# Altium schematic symbol library DCT.SchLib: 34 symbols
Pins are listed as number, name and electrical type; pins without a type are passive.

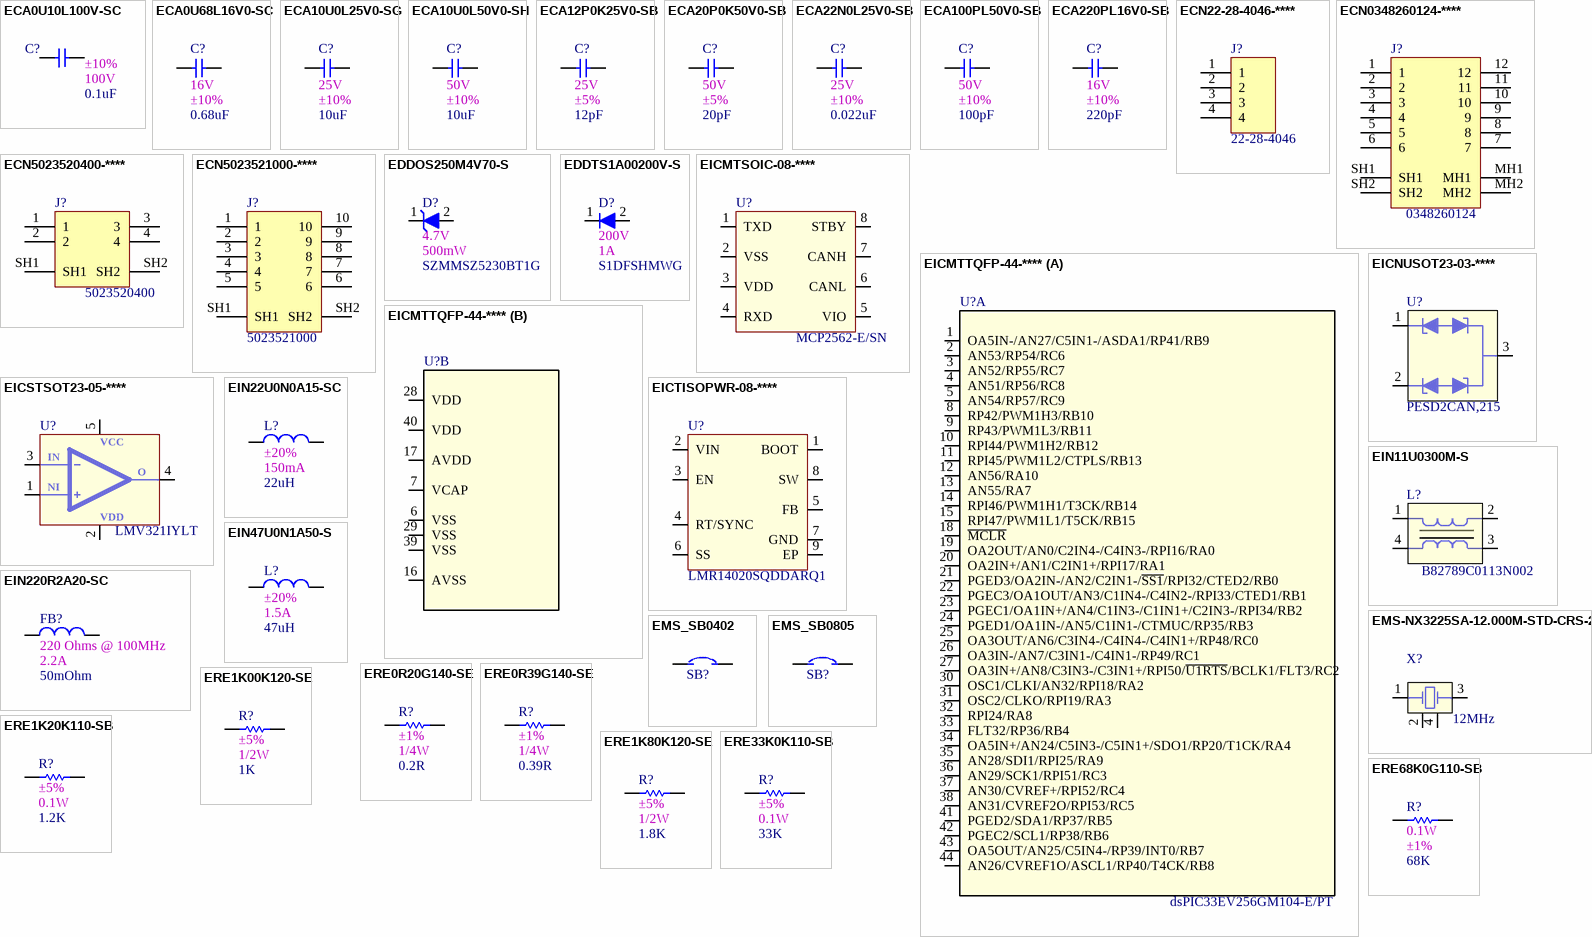
[diagram p0: symbols ECA0U10L100V-SC to ERE68K0G110-SB]

## ECA0U10L100V-SC
designator C?, comment value 0.1uF  1st Auxiliary Field: 100V  2nd Auxiliary Field: ±10%  (hidden comment: CAP CER 0.1UF 100V X7R 0603)
Manufacturer: Taiyo Yuden; Manufacturer Part Number: HMK107B7104KAHT; Internal Part Number: ECA0U10L100V-SC; Vendor Part Number: 587-6009-1-ND; Temp Co: -55°C ~ 125°C; 3rd Auxiliary Field: RoHS Compliant; Component Height (mm): 0.90mm; 4th Auxiliary Field: AEC-Q200; Vendor Name: Digi-Key; Part Type: CAP CER 0.1UF 100V X7R 0603
footprint SMDC0603 (Footprint not found)
pins: 1, 2

## ECA0U68L16V0-SC
designator C?, comment value 0.68uF  1st Auxiliary Field: 16V  2nd Auxiliary Field: ±10%  (hidden comment: CAP CER 0.68UF 16V X7R 0603)
Manufacturer: TDK Corporation; Manufacturer Part Number: CGA3E1X7R1C684K080AC; Internal Part Number: ECA0U68L16V0-SC; Vendor Part Number: 445-5673-1-ND; Temp Co: -55°C ~ 125°C; 3rd Auxiliary Field: RoHS Compliant; Component Height (mm): 0.90mm; 4th Auxiliary Field: AEC-Q200; Vendor Name: Digi-Key; Part Type: CAP CER 0.68UF 16V X7R 0603
footprint SMDC0603 (Footprint not found)
pins: 1, 2

## ECA10U0L25V0-SG
designator C?, comment value 10uF  1st Auxiliary Field: 25V  2nd Auxiliary Field: ±10%  (hidden comment: CAP CER 10UF 25V X7R 1206)
Manufacturer: Taiyo Yuden; Manufacturer Part Number: TMK316AB7106KLHT; Internal Part Number: ECA10U0L25V0-SG; Vendor Part Number: 587-3485-1-ND; Temp Co: -55°C ~ 125°C; 3rd Auxiliary Field: RoHS Compliant; Component Height (mm): 1.80mm; 4th Auxiliary Field: AEC-Q200; Vendor Name: Digi-Key; Part Type: CAP CER 10UF 25V X7R 1206
footprint SMDC1206 (Footprint not found)
pins: 1, 2

## ECA10U0L50V0-SH
designator C?, comment value 10uF  1st Auxiliary Field: 50V  2nd Auxiliary Field: ±10%  (hidden comment: CAP CER 10UF 50V X7R 1210)
Manufacturer: AVX Corporation; Manufacturer Part Number: 12105C106K4T2A; Internal Part Number: ECA10U0L50V0-SH; Vendor Part Number: 478-12145-1-ND; Temp Co: -55°C ~ 125°C; 3rd Auxiliary Field: RoHS Compliant; Component Height (mm): 2.79mm; 4th Auxiliary Field: AEC-Q200; Vendor Name: Digi-Key; Part Type: CAP CER 10UF 50V X7R 1210
footprint SMDC1210 (Footprint not found)
pins: 1, 2

## ECA12P0K25V0-SB
designator C?, comment value 12pF  1st Auxiliary Field: 25V  2nd Auxiliary Field: ±5%  (hidden comment: CAP CER 12PF 25V C0G/NP0 0402)
Manufacturer: KEMET; Manufacturer Part Number: C0402C120J3GACAUTO; Internal Part Number: ECA12P0K25V0-SB; Vendor Part Number: 399-6829-1-ND; Temp Co: -55°C ~ 125°C; 3rd Auxiliary Field: RoHS Compliant; Component Height (mm): 0.55mm; 4th Auxiliary Field: AEC-Q200; Vendor Name: Digi-Key; Part Type: CAP CER 12PF 25V C0G/NP0 0402
footprint SMDC0402 (Footprint not found)
pins: 1, 2

## ECA20P0K50V0-SB
designator C?, comment value 20pF  1st Auxiliary Field: 50V  2nd Auxiliary Field: ±5%  (hidden comment: CAP CER 20PF 50V C0G/NP0 0402)
Manufacturer: Samsung Electro-Mechanics; Manufacturer Part Number: CL05C200JB51PNC; Internal Part Number: ECA20P0K50V0-SB; Vendor Part Number: 1276-6601-1-ND; Temp Co: -55°C ~ 125°C; 3rd Auxiliary Field: RoHS Compliant; Component Height (mm): 0.55mm; 4th Auxiliary Field: AEC-Q200; Vendor Name: Digi-Key; Part Type: CAP CER 20PF 50V C0G/NP0 0402
footprint SMDC0402 (Footprint not found)
pins: 1, 2

## ECA22N0L25V0-SB
designator C?, comment value 0.022uF  1st Auxiliary Field: 25V  2nd Auxiliary Field: ±10%  (hidden comment: CAP CER 0.022UF 25V X7R 0402)
Manufacturer: Murata Electronics; Manufacturer Part Number: GCM155R71E223KA55J; Internal Part Number: ECA22N0L25V0-SB; Vendor Part Number: 490-7999-1-ND; Temp Co: -55°C ~ 125°C; 3rd Auxiliary Field: RoHS Compliant; Component Height (mm): 0.55mm; 4th Auxiliary Field: AEC-Q200; Vendor Name: Digi-Key; Part Type: CAP CER 0.022UF 25V X7R 0402
footprint SMDC0402 (Footprint not found)
pins: 1, 2

## ECA100PL50V0-SB
designator C?, comment value 100pF  1st Auxiliary Field: 50V  2nd Auxiliary Field: ±10%  (hidden comment: CAP CER 100PF 50V X7R 0402)
Manufacturer: KEMET; Manufacturer Part Number: C0402C101K5RACAUTO; Internal Part Number: ECA100PL50V0-SB; Vendor Part Number: 399-19358-1-ND; Temp Co: -55°C ~ 125°C; 3rd Auxiliary Field: RoHS Compliant; Component Height (mm): 0.55mm; 4th Auxiliary Field: AEC-Q200; Vendor Name: Digi-Key; Part Type: CAP CER 100PF 50V X7R 0402
footprint SMDC0402 (Footprint not found)
pins: 1, 2

## ECA220PL16V0-SB
designator C?, comment value 220pF  1st Auxiliary Field: 16V  2nd Auxiliary Field: ±10%  (hidden comment: CAP CER 220PF 16V X7R 0402)
Manufacturer: Yageo; Manufacturer Part Number: AC0402KRX7R7BB221; Internal Part Number: ECA220PL16V0-SB; Vendor Part Number: 311-3060-1-ND; Temp Co: -55°C ~ 125°C; 3rd Auxiliary Field: RoHS Compliant; Component Height (mm): 0.55mm; 4th Auxiliary Field: AEC-Q200; Vendor Name: Digi-Key; Part Type: CAP CER 220PF 16V X7R 0402
footprint SMDC0402 (Footprint not found)
pins: 1, 2

## ECN22-28-4046-****
designator J?, comment value 22-28-4046  (hidden comment: Headers & Wire Housings 2.54MM HDR VT 4P 240/125 30AU)
Manufacturer: Molex; Vendor Part Number: 538-22-28-4046; Internal Part Number: ECN22-28-4046-****; Vendor Name: Mouser; 3rd Auxiliary Field: ROHS Compliant; Component Height (mm): 8.38mm; 2nd Auxiliary Field: 4; Part Type: Headers & Wire Housings 2.54MM HDR VT 4P 240/125 30AU; 4th Auxiliary Field: *; Temp Co: *; 1st Auxiliary Field: 2.54 mm; Manufacturer Part Number: 22-28-4046
footprint Molex_0022284046 (Footprint not found)
pins: 1, 2, 3, 4

## ECN0348260124-****
designator J?, comment value 0348260124  (hidden comment: CONN HEADER R/A 12POS 2MM)
Manufacturer: Molex; Vendor Part Number: WM10328-ND; Internal Part Number: ECN0348260124-****; Vendor Name: Digi-Key; 3rd Auxiliary Field: ROHS Compliant; Component Height (mm): 11.68mm; 2nd Auxiliary Field: 12; 1st Auxiliary Field: 2.00mm; Part Type: CONN HEADER R/A 12POS 2MM; 4th Auxiliary Field: *; Temp Co: *; Manufacturer Part Number: 0348260124
footprint MOLEX_0348260124 (Footprint not found)
pins: 1, 2, 3, 4, 5, 6, 7, 8, 9, 10, 11, 12, MH1, MH2, SH1, SH2

## ECN5023520400-****
designator J?, comment value 5023520400  (hidden comment: CONN HEADER SMD R/A 4POS 2MM)
Manufacturer: Molex; Vendor Part Number: WM7171CT-ND; Internal Part Number: ECN5023520400-****; Vendor Name: Digi-Key; 3rd Auxiliary Field: ROHS Compliant; Component Height (mm): 6.40mm; 2nd Auxiliary Field: 4; 1st Auxiliary Field: 2.00mm; Part Type: CONN HEADER SMD R/A 4POS 2MM; 4th Auxiliary Field: *; Temp Co: *; Manufacturer Part Number: 5023520400
footprint Molex_5023520400 (CONN HEADER SMD R/A 4POS 2MM)
pins: 1, 2, 3, 4, SH1, SH2

## ECN5023521000-****
designator J?, comment value 5023521000  (hidden comment: DuraClik Wire-to-Board Header, Single Row, Right-Angle, 10 Circuits, Tin (Sn) Plating, Natural)
Manufacturer: Molex; Internal Part Number: ECN5023521000-****; 3rd Auxiliary Field: ROHS Compliant; Component Height (mm): 6.40mm; 2nd Auxiliary Field: 10; 1st Auxiliary Field: 2.00mm; Part Type: DuraClik Wire-to-Board Header, Single Row, Right-Angle, 10 Circuits, Tin (Sn) Plating, Natural; Vendor Name: Molex; Vendor Part Number: 5023521000; 4th Auxiliary Field: https://www.molex.com/molex/products/part-detail/pcb_headers/5023521000; Temp Co: *; Manufacturer Part Number: 5023521000
footprint Molex_5023521000 (CONN HEADER SMD R/A 10POS 2MM)
pins: 1, 2, 3, 4, 5, 6, 7, 8, 9, 10, SH1, SH2

## EDDOS250M4V70-S
designator D?, comment value SZMMSZ5230BT1G  1st Auxiliary Field: 4.7V  2nd Auxiliary Field: 500mW  (hidden comment: DIODE ZENER 4.7V 500MW SOD123)
Manufacturer: ON Semiconductor; Internal Part Number: EDDOS250M4V70-S; Vendor Part Number: SZMMSZ5230BT1GOSCT-ND; 3rd Auxiliary Field: RoHS Compliant; Temp Co: -55°C ~ 150°C; 4th Auxiliary Field: AEC-Q101; Vendor Name: Digi-Key; Component Height (mm): 1.35mm; Manufacturer Part Number: SZMMSZ5230BT1G; Part Type: DIODE ZENER 4.7V 500MW SOD123
footprint SOD419X135-2N (SODFL, 2-Leads, Body 1.60x3.71mm, IPC Medium Density)
pins: 1 Cathode, 2 Anode

## EDDTS1A00200V-S
designator D?, comment value S1DFSHMWG  1st Auxiliary Field: 200V  2nd Auxiliary Field: 1A  (hidden comment: DIODE, 1A, 200V, AEC-Q101, SOD-1)
Manufacturer: Taiwan Semiconductor Corporation; Internal Part Number: EDDTS1A00200V-S; Vendor Part Number: S1DFSHMWGCT-ND; 3rd Auxiliary Field: RoHS Compliant; Temp Co: -55°C ~ 150°C; Vendor Name: Digi-Key; Component Height (mm): 1.1mm; Manufacturer Part Number: S1DFSHMWG; Part Type: DIODE, 1A, 200V, AEC-Q101, SOD-1; 4th Auxiliary Field: AEC-Q101
footprint SODFL470X110-2N (Footprint not found)
pins: 1 Cathode, 2 Anode

## EICMTSOIC-08-****
designator U?, comment value MCP2562-E/SN  (hidden comment: CAN Interface IC CAN Tranceiver)
Internal Part Number: EICMTSOIC-08-****; Manufacturer: Microchip Technology; Vendor Part Number: 579-MCP2562-E/SN; 1st Auxiliary Field: 1.8V ~ 5.5V; 2nd Auxiliary Field: 1Mbps; 3rd Auxiliary Field: RoHS Compliant; 4th Auxiliary Field: AEC-Q100; Temp Coefficient: -40°C ~ 125°C; Vendor: Mouser; Component Height: 1.27mm; Part Type: CAN Interface IC CAN Tranceiver; Manufacturer Part Number: MCP2562-E/SN
footprint SOIC127P600X176-8N (Footprint not found)
pins: 1 TXD, 2 VSS, 3 VDD, 4 RXD, 5 VIO, 6 CANL, 7 CANH, 8 STBY

## EICMTTQFP-44-****
designator U?, comment value dsPIC33EV256GM104-E/PT  (hidden comment: Digital Signal Processors & Controllers - DSP, DSC 16 Bit 5V DSC 256KB ECC Flash, 16KB RAM)
Manufacturer: Microchip Technology; Vendor Part Number: 579-33EV256GM104EPT; Internal Part Number: EICMTTQFP-44-****; Vendor Name: Mouser; 3rd Auxiliary Field: RoHS Compliant; 4th Auxiliary Field: AEC-Q100; Component Height (mm): 1.2mm; Temp Co: -40°C ~ 125°C; 1st Auxiliary Field: 4.5V ~ 5.5V; Part Type: Digital Signal Processors & Controllers - DSP, DSC 16 Bit 5V DSC 256KB ECC Flash, 16KB RAM; 2nd Auxiliary Field: 256 kB; Manufacturer Part Number: dsPIC33EV256GM104-E/PT
footprint TQFP80P1200X1200X120-44N (TQFP, 44-Leads, Body 10.00x10.00mm, Pitch 0.80mm, IPC Medium Density)
part A pins: 1 OA5IN-/AN27/C5IN1-/ASDA1/RP41/RB9, 2 AN53/RP54/RC6, 3 AN52/RP55/RC7, 4 AN51/RP56/RC8, 5 AN54/RP57/RC9, 8 RP42/PWM1H3/RB10, 9 RP43/PWM1L3/RB11 , 10 RPI44/PWM1H2/RB12, 11 RPI45/PWM1L2/CTPLS/RB13, 12 AN56/RA10, 13 AN55/RA7, 14 RPI46/PWM1H1/T3CK/RB14, 15 RPI47/PWM1L1/T5CK/RB15, 18 ~{MCLR}, 19 OA2OUT/AN0/C2IN4-/C4IN3-/RPI16/RA0, 20 OA2IN+/AN1/C2IN1+/RPI17/RA1, 21 PGED3/OA2IN-/AN2/C2IN1-/~{SS1}/RPI32/CTED2/RB0, 22 PGEC3/OA1OUT/AN3/C1IN4-/C4IN2-/RPI33/CTED1/RB1, 23 PGEC1/OA1IN+/AN4/C1IN3-/C1IN1+/C2IN3-/RPI34/RB2 , 24 PGED1/OA1IN-/AN5/C1IN1-/CTMUC/RP35/RB3, 25 OA3OUT/AN6/C3IN4-/C4IN4-/C4IN1+/RP48/RC0, 26 OA3IN-/AN7/C3IN1-/C4IN1-/RP49/RC1, 27 OA3IN+/AN8/C3IN3-/C3IN1+/RPI50/~{U1RTS}/BCLK1/FLT3/RC2 , 30 OSC1/CLKI/AN32/RPI18/RA2, 31 OSC2/CLKO/RPI19/RA3, 32 RPI24/RA8, 33 FLT32/RP36/RB4, 34 OA5IN+/AN24/C5IN3-/C5IN1+/SDO1/RP20/T1CK/RA4 , 35 AN28/SDI1/RPI25/RA9, 36 AN29/SCK1/RPI51/RC3, 37 AN30/CVREF+/RPI52/RC4, 38 AN31/CVREF2O/RPI53/RC5, 41 PGED2/SDA1/RP37/RB5, 42 PGEC2/SCL1/RP38/RB6, 43 OA5OUT/AN25/C5IN4-/RP39/INT0/RB7 , 44 AN26/CVREF1O/ASCL1/RP40/T4CK/RB8
part B pins: 6 VSS, 7 VCAP, 16 AVSS, 17 AVDD, 28 VDD, 29 VSS, 39 VSS, 40 VDD

## EICNUSOT23-03-****
designator U?, comment value PESD2CAN,215  (hidden comment: TVS DIODE 24V 41V SOT23)
Manufacturer: Nexperia USA Inc.; Vendor Part Number: 1727-3891-1-ND; Internal Part Number: EICNUSOT23-03-****; Vendor Name: Digi-Key; 3rd Auxiliary Field: RoHS Compliant; 4th Auxiliary Field: AEC-Q101; Component Height (mm): 1.1mm; Temp Co: -55°C ~ 150°C (TA); 2nd Auxiliary Field: 25pF @ 1MHz; Part Type: TVS DIODE 24V 41V SOT23; 1st Auxiliary Field: 41V; Manufacturer Part Number: PESD2CAN,215
footprint SOT190P290X100-3N (BAT54,DIODE ARRAY SCHOTTKY 30V SOT23-3)
pins: 1, 2, 3

## EICSTSOT23-05-****
designator U?, comment value LMV321IYLT  (hidden comment: IC OPAMP GP 1 CIRCUIT SOT23-5)
Manufacturer: STMicroelectronics; Internal Part Number: EICSTSOT23-05-****; Vendor Part Number: 497-10221-1-ND; Component Height (mm): 1.45MM; 3rd Auxiliary Field: RoHS Compliant; 1st Auxiliary Field: 2.7V ~ 6V; 2nd Auxiliary Field: 48mA; Temp Co: -40°C ~ 125°C; 4th Auxiliary Field: AEC-Q100; Vendor Name: Digi-Key; Part Type: IC OPAMP GP 1 CIRCUIT SOT23-5; Manufacturer Part Number: LMV321IYLT
footprint SOT95P280X145-5N (SC189ZSKTRT, IC REG BUCK 3.3V 1.5A SYNC SOT23)
pins: 1 Non-Inverting input, 2 VDD, 3 Inverting input, 4 Output, 5 VCC
text: IN; O; NI

## EICTISOPWR-08-****
designator U?, comment value LMR14020SQDDARQ1  (hidden comment: IC REG BUCK ADJUSTABLE 2A 8SOPWR)
Manufacturer: Texas Instruments; Internal Part Number: EICTISOPWR-08-****; Vendor Part Number: 296-43398-1-ND; Component Height (mm): 1.7mm; 3rd Auxiliary Field: RoHS Compliant; 4th Auxiliary Field: AEC-Q100; Vendor Name: Digi-Key; Temp Co: -40°C ~ 125°C (TJ); 1st Auxiliary Field: 40V; Manufacturer Part Number: LMR14020SQDDARQ1; Part Type: IC REG BUCK ADJUSTABLE 2A 8SOPWR; 2nd Auxiliary Field: 2A
footprint SOIC127PX486X383X110-9N (LMR14020SQDDARQ1)
pins: 1 BOOT, 2 VIN, 3 EN, 4 RT/SYNC, 5 FB, 6 SS, 7 GND, 8 SW, 9 EP

## EIN11U0300M-S
designator L?, comment value B82789C0113N002  (hidden comment: CMC 11UH 300MA 2LN SMD AEC-Q200)
Manufacturer: TDK Electronics Inc.; Internal Part Number: EIN11U0300M-S; Vendor Part Number: 495-4409-1-ND; Temp Co: -55°C ~ 125°C; 3rd Auxiliary Field: RoHS Compliant; Component Height (mm): 3.00mm; Vendor Name: Digi-Key; 1st Auxiliary Field: 250mOhm; Manufacturer Part Number: B82789C0113N002; Part Type: CMC 11UH 300MA 2LN SMD AEC-Q200; 4th Auxiliary Field: AEC-Q200; 2nd Auxiliary Field: 300mA
footprint IND_B82789C0104N002 (Footprint not found)
pins: 1, 2, 3, 4

## EIN22U0N0A15-SC
designator L?, comment value 22uH  2nd Auxiliary Field: ±20%  1st Auxiliary Field: 150mA  (hidden comment: FIXED IND 22UH 150MA 2.4 OHM)
Manufacturer: TDK Corporation; Vendor Part Number: 445-175589-1-ND; Manufacturer Part Number: MLZ1608M220WTD25; Internal Part Number: EIN22U0N0A15-SC; Vendor Name: Digi-Key; 3rd Auxiliary Field: RoHS Compliant; 4th Auxiliary Field: AEC-Q200; Component Height (mm): 0.95mm; Temp Co: -55°C ~ 125°C; Part Type: FIXED IND 22UH 150MA 2.4 OHM
footprint SMDL0603 (Chip Inductor, 2-Leads, Body 1.60x0.80mm, IPC Medium Density)
pins: 1, 2

## EIN47U0N1A50-S
designator L?, comment value 47uH  2nd Auxiliary Field: ±20%  1st Auxiliary Field: 1.5A  (hidden comment: FIXED IND 6.8UH 2.4A 63.7 MOHM)
FIXED IND 47UH 1.5A 182 MOHM SMD; Manufacturer: Taiyo Yuden; Vendor Part Number: 587-6120-1-ND; Manufacturer Part Number: NRS8040T470MJGKV; Internal Part Number: EIN47U0N1A50-S; Vendor Name: Digi-Key; 3rd Auxiliary Field: RoHS Compliant; 4th Auxiliary Field: AEC-Q200; Component Height (mm): 4.00mm; Temp Co: -40°C ~ 125°C; Part Type: FIXED IND 47UH 1.5A 182 MOHM SMD
footprint IND_NRS5030T3R3MMGJ (NRS5030T3R3MMGJ, FIXED IND 3.3UH 3A 30 MOHM SMD)
pins: 1, 2

## EIN220R2A20-SC
designator FB?, comment value 50mOhm  2nd Auxiliary Field: 220 Ohms @ 100MHz  1st Auxiliary Field: 2.2A  (hidden comment: FERRITE BEAD 220 OHM 0603 1LN)
Manufacturer: Murata Electronics; Vendor Part Number: 490-16499-1-ND; Manufacturer Part Number: BLM18KG221SZ1D; Internal Part Number: EIN220R2A20-SC; Vendor Name: Digi-Key; 3rd Auxiliary Field: RoHS Compliant; 4th Auxiliary Field: AEC-Q200; Component Height (mm): 0.95mm; Temp Co: -55°C ~ 125°C; Part Type: FERRITE BEAD 220 OHM 0603 1LN
footprint SMDL0603 (Chip Inductor, 2-Leads, Body 1.60x0.80mm, IPC Medium Density)
pins: 1, 2

## EMS-NX3225SA-12.000M-STD-CRS-2
designator X?, comment value 12MHz  (hidden comment: CRYSTAL 12.0000MHZ 8PF SMD)
Manufacturer: NDK America, Inc.; Vendor Part Number: 644-1128-1-ND; Manufacturer Part Number: NX3225SA-12.000M-STD-CRS-2; Internal Part Number: EMS-NX3225SA-12.000M-STD-CRS-2; Vendor Name: Digi-Key; 3rd Auxiliary Field: RoHS Compliant; 4th Auxiliary Field: AEC-Q200; Component Height (mm): 0.60mm; Temp Co: -40°C ~ 125°C; 2nd Auxiliary Field: ±15ppm; Part Type: CRYSTAL 12.0000MHZ 8PF SMD; 1st Auxiliary Field: 8pF
footprint XTAL310X225X100-4N (ABM8G)
pins: 1 Crystal, 2 GND, 3 Crystal, 4 GND

## EMS_SB0402
designator SB?  (value not drawn)  (net tie, no BOM)
*; Manufacturer: *; Part Type: *; Vendor Name: *; Vendor Part Number: *; 3rd Auxiliary Field: *; Manufacturer Part Number: *; Internal Part Number: EMS_SB0402; 4th Auxiliary Field: *; Component Height (mm): *; Temp Co: *; 2nd Auxiliary Field: *; 1st Auxiliary Field: *; Value: *
footprint SB_0402 (Footprint not found)
pins: 1, 2

## EMS_SB0805
designator SB?  (value not drawn)  (net tie, no BOM)
*; Manufacturer: *; Part Type: *; Vendor Name: *; Vendor Part Number: *; 3rd Auxiliary Field: *; Manufacturer Part Number: *; Internal Part Number: EMS_SB0805; 4th Auxiliary Field: *; Component Height (mm): *; Temp Co: *; 2nd Auxiliary Field: *; 1st Auxiliary Field: *; Value: *
footprint SB_0805
pins: 1, 2

## ERE0R20G140-SE
designator R?, comment value 0.2R  2nd Auxiliary Field: ±1%  1st Auxiliary Field: 1/4W  (hidden comment: RES 0.2 OHM 1% 1/4W 0805)
Manufacturer: Yageo; Vendor Part Number: 311-0.2LUCT-ND; Manufacturer Part Number: RL0805FR-7W0R2L; Internal Part Number: ERE0R20G140-SE; Vendor Name: Digi-Key; 3rd Auxiliary Field: RoHS Compliant; 4th Auxiliary Field: AEC-Q200; Component Height (mm): 0.60mm; Temp Co: -55°C ~ 125°C; Part Type: RES 0.2 OHM 1% 1/4W 0805
footprint SMDR0805 (Footprint not found)
pins: 1, 2

## ERE0R39G140-SE
designator R?, comment value 0.39R  2nd Auxiliary Field: ±1%  1st Auxiliary Field: 1/4W  (hidden comment: RES 0.39 OHM 1% 1/4W 0805)
Manufacturer: Yageo; Vendor Part Number: 311-.39LUCT-ND; Manufacturer Part Number: RL0805FR-7W0R39L; Internal Part Number: ERE0R39G140-SE; Vendor Name: Digi-Key; 3rd Auxiliary Field: RoHS Compliant; 4th Auxiliary Field: AEC-Q200; Component Height (mm): 0.60mm; Temp Co: -55°C ~ 125°C; Part Type: RES 0.39 OHM 1% 1/4W 0805
footprint SMDR0805 (Footprint not found)
pins: 1, 2

## ERE1K00K120-SE
designator R?, comment value 1K  2nd Auxiliary Field: ±5%  1st Auxiliary Field: 1/2W  (hidden comment: RES SMD 1K OHM 5% 1/2W 0805)
Manufacturer: Panasonic Electronic Components; Vendor Part Number: P1.0KADCT-ND; Manufacturer Part Number: ERJ-P06J102V; Internal Part Number: ERE1K00K120-SE; Vendor Name: Digi-Key; 3rd Auxiliary Field: RoHS Compliant; 4th Auxiliary Field: AEC-Q200; Component Height (mm): 0.70mm; Temp Co: -55°C ~ 155°C; Part Type: RES SMD 1K OHM 5% 1/2W 0805
footprint SMDR0805 (Footprint not found)
pins: 1, 2

## ERE1K20K110-SB
designator R?, comment value 1.2K  2nd Auxiliary Field: ±5%  1st Auxiliary Field: 0.1W  (hidden comment: RES SMD 1.2K OHM 5% 1/10W 0402)
Manufacturer: Panasonic Electronic Components; Vendor Part Number: P1.2KJCT-ND; Manufacturer Part Number: ERJ-2GEJ122X; Internal Part Number: ERE1K20K110-SB; Vendor Name: Digi-Key; 3rd Auxiliary Field: RoHS Compliant; 4th Auxiliary Field: AEC-Q200; Component Height (mm): 0.40mm; Temp Co: -55°C ~ 155°C; Part Type: RES SMD 1.2K OHM 5% 1/10W 0402
footprint SMDR0402 (Footprint not found)
pins: 1, 2

## ERE1K80K120-SE
designator R?, comment value 1.8K  2nd Auxiliary Field: ±5%  1st Auxiliary Field: 1/2W  (hidden comment: RES SMD 1.8K OHM 5% 1/2W 0805)
Manufacturer: Panasonic Electronic Components; Vendor Part Number: P1.8KADCT-ND; Manufacturer Part Number: ERJ-P06J182V; Internal Part Number: ERE1K80K120-SE; Vendor Name: Digi-Key; 3rd Auxiliary Field: RoHS Compliant; 4th Auxiliary Field: AEC-Q200; Component Height (mm): 0.70mm; Temp Co: -55°C ~ 155°C; Part Type: RES SMD 1.8K OHM 5% 1/2W 0805
footprint SMDR0805 (Footprint not found)
pins: 1, 2

## ERE33K0K110-SB
designator R?, comment value 33K  2nd Auxiliary Field: ±5%  1st Auxiliary Field: 0.1W  (hidden comment: RES SMD 33K OHM 5% 1/10W 0402)
Manufacturer: Panasonic Electronic Components; Vendor Part Number: P33KJCT-ND; Manufacturer Part Number: ERJ-2GEJ333X; Internal Part Number: ERE33K0K110-SB; Vendor Name: Digi-Key; 3rd Auxiliary Field: RoHS Compliant; 4th Auxiliary Field: AEC-Q200; Component Height (mm): 0.40mm; Temp Co: -55°C ~ 155°C; Part Type: RES SMD 33K OHM 5% 1/10W 0402
footprint SMDR0402 (Footprint not found)
pins: 1, 2

## ERE68K0G110-SB
designator R?, comment value 68K  1st Auxiliary Field: 0.1W  2nd Auxiliary Field: ±1%  (hidden comment: RES SMD 68K OHM 1% 1/10W 0402)
Manufacturer Part Number: ERJ-2RKF6802X; Manufacturer: Panasonic Electronic Components; Internal Part Number: ERE68K0G110-SB; Vendor Part Number: P68.0KLCT-ND; 3rd Auxiliary Field: ROHS3 Compliant; Component Height (mm): 0.40mm; Temp Co: ±100ppm/°C; 4th Auxiliary Field: AEC-Q200; Vendor Name: Digi-Key; Part Type: RES SMD 68K OHM 1% 1/10W 0402
footprint SMDR0402 (Footprint not found)
pins: 1, 2